# Altium footprint library PicoBlade.PcbLib: 7 footprints
Each footprint in its own frame and in the unit in brackets; x right, y up, seen from the top. Pads: shape width x height; smd on the part's side, far side on the other; paste and mask are expansions set on the pad; w line width, h text height; cw(c..) or ccw(c..) is an arc to the next point about the centre after c.
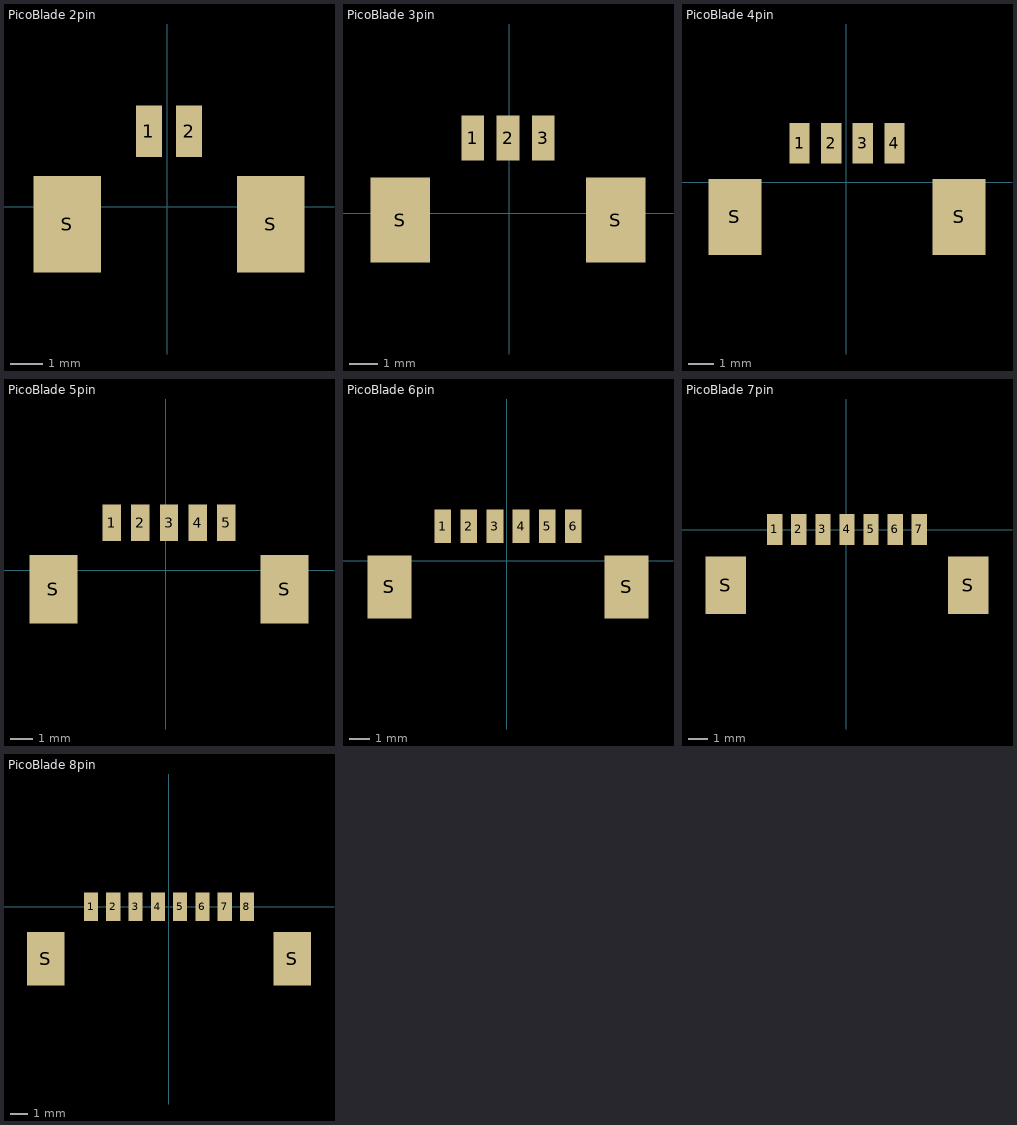
[diagram p0: the footprints below, top view; thin cyan lines are the x and y axes]

## PicoBlade 2pin [mm]
pads (4):
  rect 0.8x1.6 smd: 1(-0.565,2.35) 2(0.685,2.35)
  rect 2.1x3 smd: S(-3.115,-0.55) S(3.235,-0.55)

## PicoBlade 3pin [mm]
pads (5):
  rect 0.8x1.6 smd: 1(-1.29,2.65) 2(-0.04,2.65) 3(1.21,2.65)
  rect 2.1x3 smd: S(-3.84,-0.25) S(3.76,-0.25)

## PicoBlade 4pin [mm]
pads (6):
  rect 0.8x1.6 smd: 1(-1.84,1.525) 2(-0.59,1.525) 3(0.66,1.525) 4(1.91,1.525)
  rect 2.1x3 smd: S(-4.39,-1.375) S(4.46,-1.375)

## PicoBlade 5pin [mm]
pads (7):
  rect 0.8x1.6 smd: 1(-2.365,2.075) 2(-1.115,2.075) 3(0.135,2.075) 4(1.385,2.075) 5(2.635,2.075)
  rect 2.1x3 smd: S(-4.915,-0.825) S(5.185,-0.825)

## PicoBlade 6pin [mm]
pads (8):
  rect 0.8x1.6 smd: 1(-3.065,1.65) 2(-1.815,1.65) 3(-0.565,1.65) 4(0.685,1.65) 5(1.935,1.65) 6(3.185,1.65)
  rect 2.1x3 smd: S(-5.615,-1.25) S(5.735,-1.25)

## PicoBlade 7pin [mm]
pads (9):
  rect 0.8x1.6 smd: 1(-3.715,0.025) 2(-2.465,0.025) 3(-1.215,0.025) 4(0.035,0.025) 5(1.285,0.025) 6(2.535,0.025) 7(3.785,0.025)
  rect 2.1x3 smd: S(-6.265,-2.875) S(6.335,-2.875)

## PicoBlade 8pin [mm]
pads (10):
  rect 0.8x1.6 smd: 1(-4.365,0) 2(-3.115,0) 3(-1.865,0) 4(-0.615,0) 5(0.635,0) 6(1.885,0) 7(3.135,0) 8(4.385,0)
  rect 2.1x3 smd: S(-6.915,-2.9) S(6.935,-2.9)